# Altium schematic symbol library SN393.SchLib: 1 symbol
Pins are listed as number, name and electrical type; pins without a type are passive.

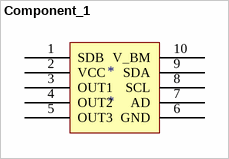
[diagram p0: symbol Component_1]

## Component_1
designator *
pins: 1 SDB, 2 VCC, 3 OUT1, 4 OUT2, 5 OUT3, 6 GND, 7 AD, 8 SCL, 9 SDA, 10 V_BM